# Altium schematic symbol library MP1584EN-LF-Z.Schlib: 1 symbol
Pins are listed as number, name and electrical type; pins without a type are passive.

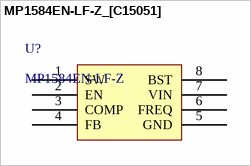
[diagram p0: symbol MP1584EN-LF-Z_[C15051]]

## MP1584EN-LF-Z_[C15051]
designator U?, comment MP1584EN-LF-Z
DC-DC芯片
footprint SOIC-8_EP_150mil
pins: 1 SW , 2 EN , 3 COMP , 4 FB , 5 GND, 6 FREQ, 7 VIN, 8 BST